# Altium integrated library ON Semiconductor.IntLib: 1 symbol
Pins are listed as number, name and electrical type; pins without a type are passive.

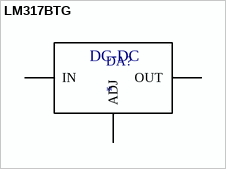
[diagram p0: symbol LM317BTG]

## LM317BTG
designator DA?
LM317BTG
footprint TO220
footprint TO220
pins: 1 ADJ, 2 OUT, 3 IN
text: DC-DC